# Altium footprint library 2450BM15A0002E.PcbLib: 1 footprints
Each footprint in its own frame and in the unit in brackets; x right, y up, seen from the top. Pads: shape width x height; smd on the part's side, far side on the other; paste and mask are expansions set on the pad; w line width, h text height; cw(c..) or ccw(c..) is an arc to the next point about the centre after c.
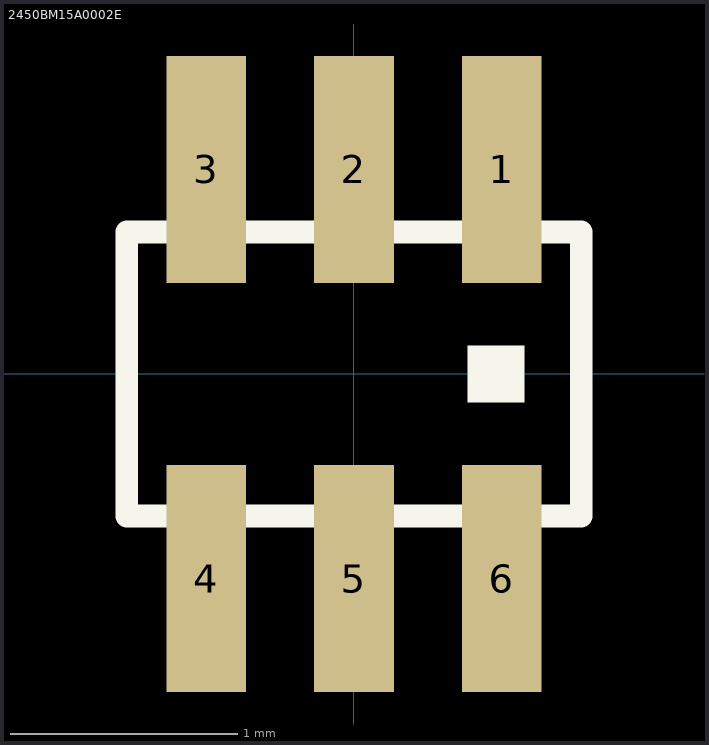
[diagram p0: the footprint, top view; thin cyan lines are the x and y axes]

## 2450BM15A0002E [mm]
pads (6):
  rect 0.35x1 smd: 1(0.65,0.9) 2(0,0.9) 3(-0.65,0.9) 4(-0.65,-0.9) 5(0,-0.9) 6(0.65,-0.9)
Top Overlay:
  rectangle: 0.5,-0.125 0.75,0.125
  lines w0.1: -1,-0.625 -1,0.625 1,0.625 1,-0.625 -1,-0.625